# Altium footprint library moya.PcbLib: 35 footprints (part 3 of 3)
Each footprint in its own frame and in the unit in brackets; x right, y up, seen from the top. Pads: shape width x height; smd on the part's side, far side on the other; paste and mask are expansions set on the pad; w line width, h text height; cw(c..) or ccw(c..) is an arc to the next point about the centre after c.
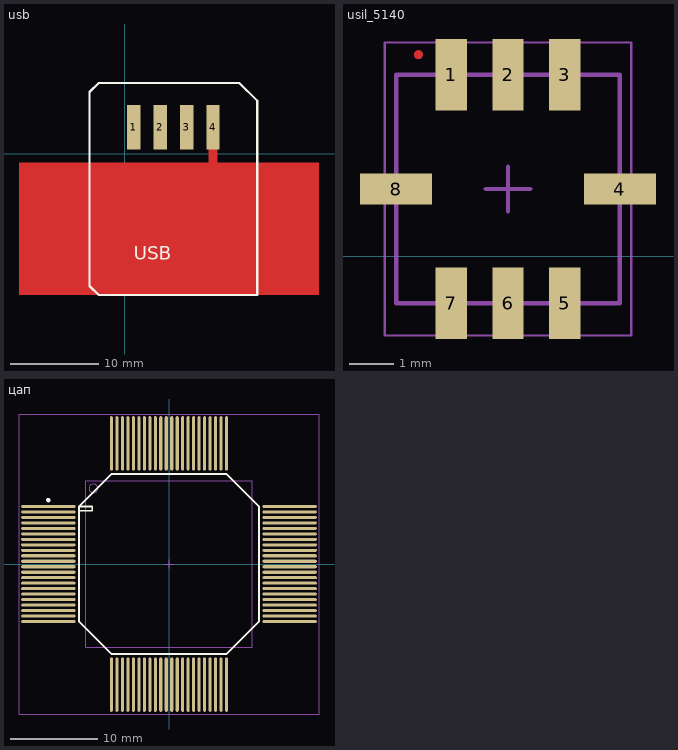
[diagram p2: the footprints below, top view; thin cyan lines are the x and y axes]

## usb [mm]
pads (4):
  rect 1.5x5 smd: 1(1,3) 2(4,3) 3(7,3) 4(10,3)
Top Layer:
  rectangle: -12,-16 22,-1
  lines w1: 10,-2 10,3
Top Overlay:
  lines w0.254: -4,-15 -3,-16 15,-16 15,6 13,8 -3,8 -4,7 -4,-15
  text "USB" at 1,-12 h1.52
3D body "usb.STEP": height 7.66, standoff -3.62, extent -3.036,-15.53 13.197,-1.53

## usil_5140 [mm] "Chip Array, Concave, 6-Leads, Pitch 1.27mm,  Body 5.00x5.00mm,  IPC Medium Density"
height 1.8
pads (8):
  rect 0.7x1.6 smd: 1(-5.27,4.05) 2(-4,4.05) 3(-2.73,4.05) 5(-2.73,-1.05) 6(-4,-1.05) 7(-5.27,-1.05)
  rect 1.6x0.7 smd: 4(-1.5,1.5) 8(-6.5,1.5)
Top Layer:
  circle w0.1: c-6,4.5 r0.05
Mechanical 13:
  lines w0.1: -6.5,-1.05 -6.5,4.05 -5.545,4.05 ccw(c-5.27,4.05) -4.995,4.05 -4.275,4.05 ccw(c-4,4.05) -3.725,4.05 -3.005,4.05 ccw(c-2.73,4.05) -2.455,4.05 -1.5,4.05 -1.5,-1.05 -2.455,-1.05 ccw(c-2.73,-1.05) -3.005,-1.05 -3.725,-1.05 ccw(c-4,-1.05) -4.275,-1.05 -4.995,-1.05 ccw(c-5.27,-1.05) -5.545,-1.05 -6.5,-1.05
Mechanical 15:
  lines w0.05: -6.75,-1.77 -1.25,-1.77 -1.25,4.77 -6.75,4.77 -6.75,-1.77
  lines w0.1: -4.5,1.5 -3.5,1.5 ; -4,1 -4,2
3D body: height 1.8, standoff 0, extent -6.5,-1 -1.5,4

## цап [mm] "CQFP, 88-Leads, Body 32.50x32.50mm, Pitch 0.63mm, IPC Medium Density"
height 3.1
pads (88):
  oval 6.2x0.35 smd: 1(-13.75,6.563) 2(-13.75,5.938) 3(-13.75,5.313) 4(-13.75,4.688) 5(-13.75,4.063) 6(-13.75,3.438) 7(-13.75,2.813) 8(-13.75,2.188) 9(-13.75,1.563) 10(-13.75,0.938) 11(-13.75,0.313) 12(-13.75,-0.312) 13(-13.75,-0.937) 14(-13.75,-1.562) 15(-13.75,-2.187) 16(-13.75,-2.812) 17(-13.75,-3.437) 18(-13.75,-4.062) 19(-13.75,-4.687) 20(-13.75,-5.312) 21(-13.75,-5.937) 22(-13.75,-6.562) 45(13.75,-6.562) 46(13.75,-5.937) 47(13.75,-5.312) 48(13.75,-4.687) 49(13.75,-4.062) 50(13.75,-3.437) 51(13.75,-2.812) 52(13.75,-2.187) 53(13.75,-1.562) 54(13.75,-0.937) 55(13.75,-0.312) 56(13.75,0.313) 57(13.75,0.938) 58(13.75,1.563) 59(13.75,2.188) 60(13.75,2.813) 61(13.75,3.438) 62(13.75,4.063) 63(13.75,4.688) 64(13.75,5.313) 65(13.75,5.938) 66(13.75,6.563)
  oval 0.35x6.2 smd: 23(-6.563,-13.75) 24(-5.938,-13.75) 25(-5.313,-13.75) 26(-4.688,-13.75) 27(-4.063,-13.75) 28(-3.438,-13.75) 29(-2.813,-13.75) 30(-2.188,-13.75) 31(-1.563,-13.75) 32(-0.938,-13.75) 33(-0.313,-13.75) 34(0.312,-13.75) 35(0.937,-13.75) 36(1.562,-13.75) 37(2.187,-13.75) 38(2.812,-13.75) 39(3.437,-13.75) 40(4.062,-13.75) 41(4.687,-13.75) 42(5.312,-13.75) 43(5.937,-13.75) 44(6.562,-13.75) 67(6.562,13.75) 68(5.937,13.75) 69(5.312,13.75) 70(4.687,13.75) 71(4.062,13.75) 72(3.437,13.75) 73(2.812,13.75) 74(2.187,13.75) 75(1.562,13.75) 76(0.937,13.75) 77(0.312,13.75) 78(-0.313,13.75) 79(-0.938,13.75) 80(-1.563,13.75) 81(-2.188,13.75) 82(-2.813,13.75) 83(-3.438,13.75) 84(-4.063,13.75) 85(-4.688,13.75) 86(-5.313,13.75) 87(-5.938,13.75) 88(-6.563,13.75)
Top Overlay:
  circle w0.25: c-13.75,7.288 r0.125
  lines w0.2: -10.25,6.065 -8.75,6.065 -8.75,6.565 -10.25,6.565 ; -10.25,6.565 -6.565,10.25 6.565,10.25 10.25,6.565 10.25,-6.565 6.565,-10.25 -6.565,-10.25 -10.25,-6.565 -10.25,6.565
Mechanical 13:
  circle w0.1: c-8.615,8.615 r0.5
  lines w0.1: -9.515,-9.515 9.515,-9.515 9.515,9.515 -9.515,9.515 -9.515,-9.515
Mechanical 15:
  lines w0.05: -17.1,-17.1 17.1,-17.1 17.1,17.1 -17.1,17.1 -17.1,-17.1
  lines w0.1: -0.5,0 0.5,0 ; 0,-0.5 0,0.5
3D body: height 3.1, standoff 0.25, extent -9.515,-9.515 9.515,9.515